# EAGLE library part POLOLU_ENCODER (library scono)
For use with .2" headers or JST-PH connectors
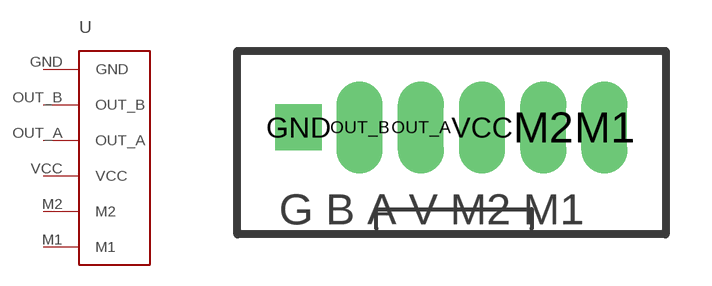
[diagram p6: symbol with the pads of POLOLU_ENCODER; footprint POLOLU_ENCODER]

Designator prefix -

## POLOLU_ENCODER  [POLOLU_ENCODER]
GND  GND
M1  M1
M2  M2
OUT_A  OUT_A
OUT_B  OUT_B
VCC  VCC

## Footprint POLOLU_ENCODER (pad centres in mm)
Header for encodered Pololu Micrometal gearmotor
drill 1 square: GND 0,0
drill 1 long: M1 10,0; M2 8,0; OUT_A 4,0; OUT_B 2,0; VCC 6,0